# EAGLE library part 580-NDTD1215C (library regulators)
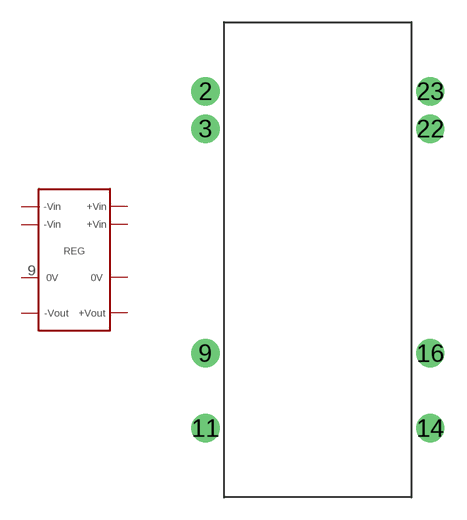
[diagram p0: symbol with the pads of 580-NDTD1215C; footprint 580-NDTD1215C]

Designator prefix REG

## 580-NDTD1215C  [580-NDTD1215C]
2  -VIN1
3  -VIN2
9  0V1
11  0V2
14  -VOUT
16  +VOUT
22  +VIN2
23  +VIN1

## Footprint 580-NDTD1215C (pad centres in mm)
drill 1 pad 1.93: 2 -7.62,11.43; 3 -7.62,8.89; 9 -7.62,-6.35; 11 -7.62,-11.43; 14 7.63,-11.43; 16 7.63,-6.35; 22 7.63,8.89; 23 7.63,11.43